# Altium footprint library SOT-23-5(3x3).PcbLib: 1 footprints
Each footprint in its own frame and in the unit in brackets; x right, y up, seen from the top. Pads: shape width x height; smd on the part's side, far side on the other; paste and mask are expansions set on the pad; w line width, h text height; cw(c..) or ccw(c..) is an arc to the next point about the centre after c.
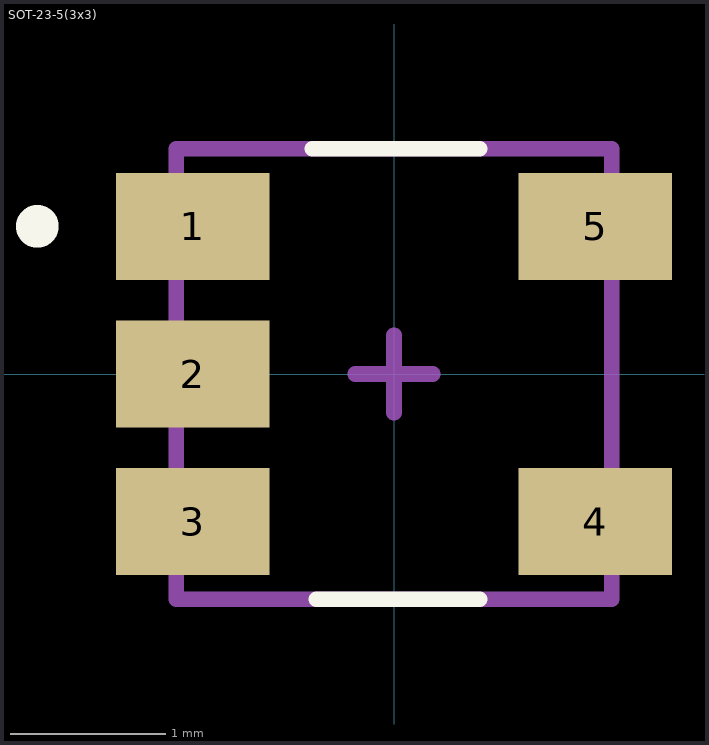
[diagram p0: the footprint, top view; thin cyan lines are the x and y axes]

## SOT-23-5(3x3) [mm]
pads (5):
  rect 0.99x0.69 smd mask+0.051: 1(-1.295,0.95) 2(-1.295,0) 3(-1.295,-0.95) 4(1.295,-0.95) 5(1.295,0.95)
Top Overlay:
  circle w0.254: c-2.295,0.95 r0.01
  lines w0.1: -0.525,1.45 0.55,1.45 ; -0.5,-1.45 0.55,-1.45
Mechanical 13:
  lines w0.1: -1.4,-1.45 1.4,-1.45 1.4,1.45 -1.4,1.45 -1.4,-1.45
Mechanical 15:
  lines w0.025: 0,0 0,0.25
  lines w0.1: -0.25,0 0,0 ; 0,-0.25 0,0 ; 0,0.25 0,0 ; 0.25,0 0,0
3D body "SOT-23-5(3x3).STEP": height 1.45, standoff 0, extent -1.4,-1.45 1.4,1.45